# Altium schematic symbol library EEG.SchLib: 7 symbols
Pins are listed as number, name and electrical type; pins without a type are passive.

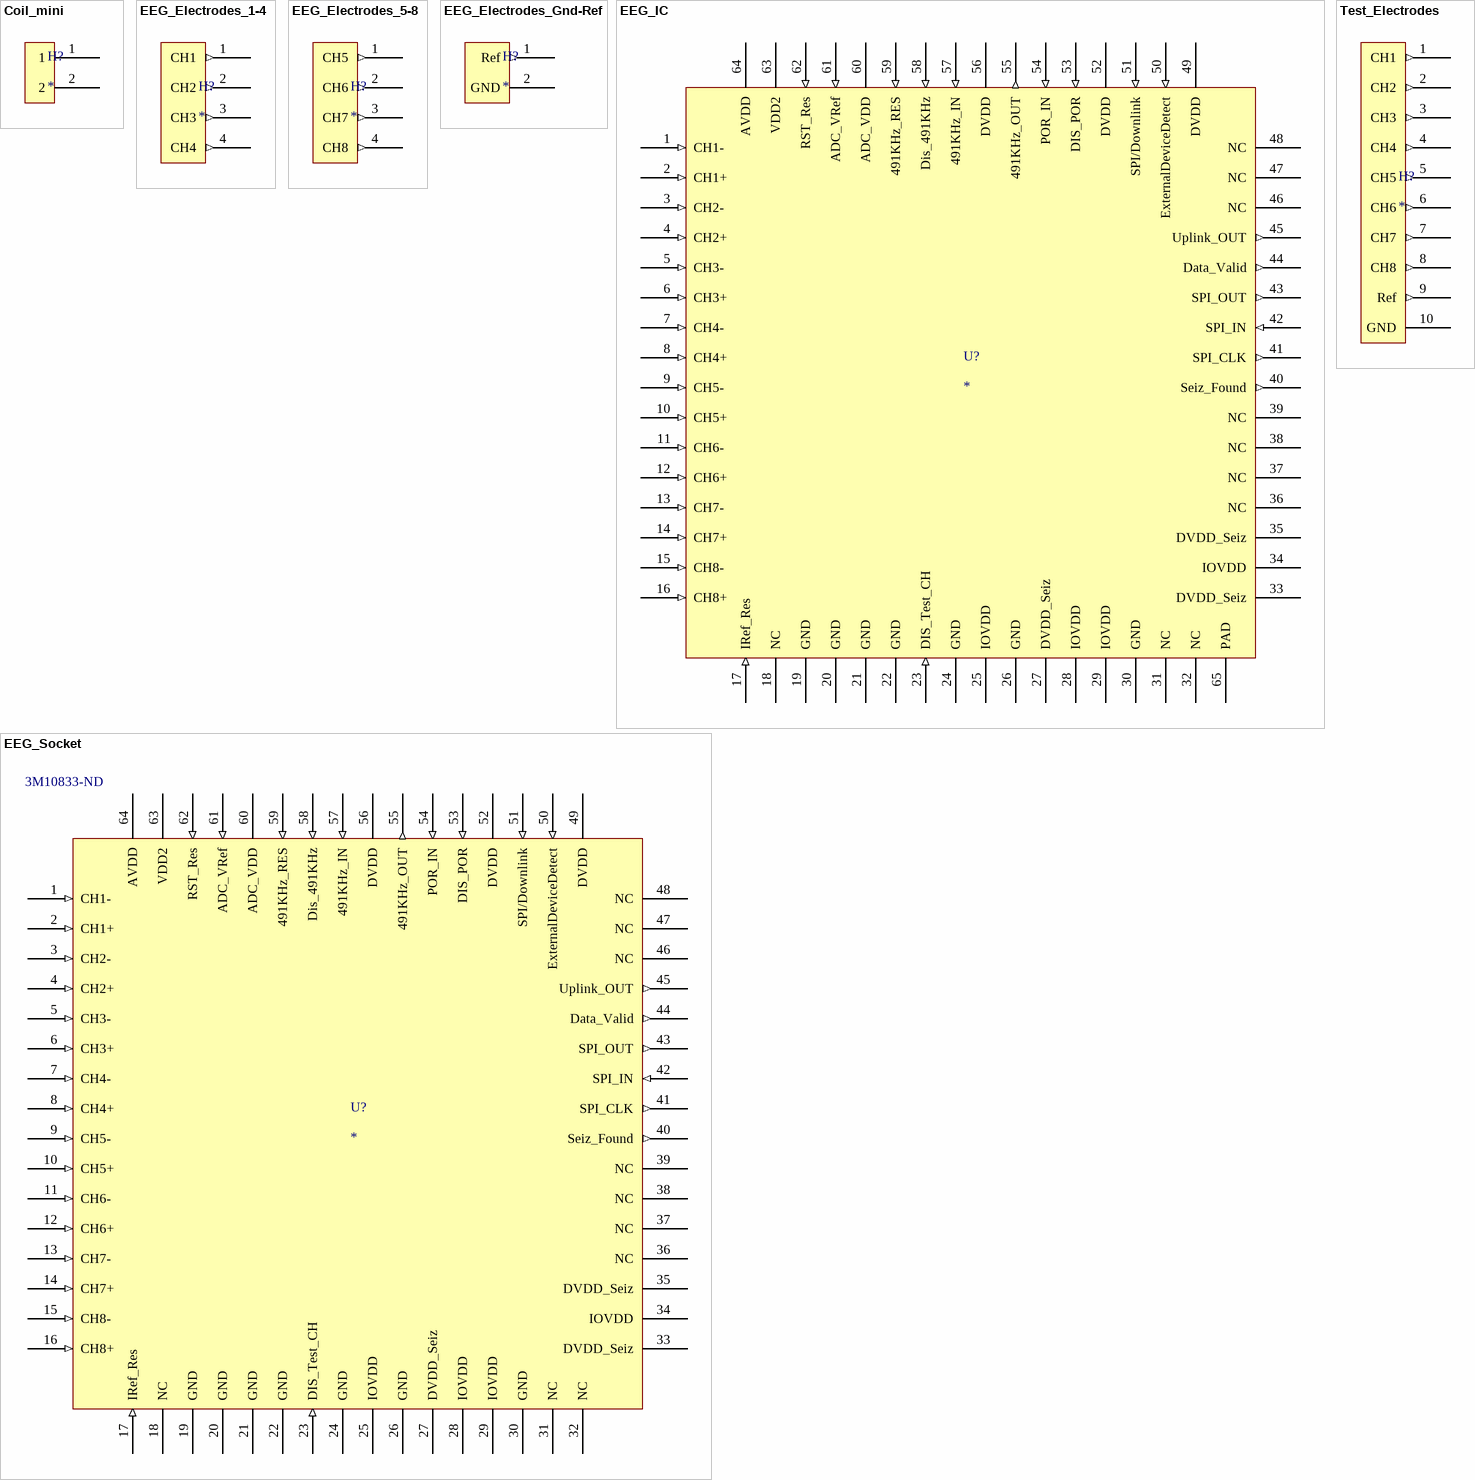
[diagram p0: symbols Coil_mini to Test_Electrodes]

## Coil_mini
designator H?
footprint Coil_mini
pins: 1, 2

## EEG_Electrodes_1-4
designator H?
footprint 4EEG_Header
pins: 1 CH1 (out), 2 CH2 (out), 3 CH3 (out), 4 CH4 (out)

## EEG_Electrodes_5-8
designator H?
footprint 4EEG_Header
pins: 1 CH5 (out), 2 CH6 (out), 3 CH7 (out), 4 CH8 (out)

## EEG_Electrodes_Gnd-Ref
designator H?
footprint EEG_GND-Ref
pins: 1 Ref (out), 2 GND (power)

## EEG_IC
designator U?
EEG 64 pin IC
footprint ADI_CP_64-2_LFCSP64 (QFN, 64-Leads, Body 9.00x9.00mm, Pitch 0.50mm, Thermal Pad 6.00x6.00mm, IPC High Density)
pins: 1 CH1- (in), 2 CH1+ (in), 3 CH2- (in), 4 CH2+ (in), 5 CH3- (in), 6 CH3+ (in), 7 CH4- (in), 8 CH4+ (in), 9 CH5- (in), 10 CH5+ (in), 11 CH6- (in), 12 CH6+ (in), 13 CH7- (in), 14 CH7+ (in), 15 CH8- (in), 16 CH8+ (in), 17 IRef_Res (in), 18 NC, 19 GND (power), 20 GND (power), 21 GND (power), 22 GND (power), 23 DIS_Test_CH (in), 24 GND (power), 25 IOVDD (power), 26 GND (power), 27 DVDD_Seiz (power), 28 IOVDD (power), 29 IOVDD (power), 30 GND (power), 31 NC, 32 NC, 33 DVDD_Seiz (power), 34 IOVDD (power), 35 DVDD_Seiz (power), 36 NC, 37 NC, 38 NC, 39 NC, 40 Seiz_Found (out), 41 SPI_CLK (out), 42 SPI_IN (in), 43 SPI_OUT (out), 44 Data_Valid (out), 45 Uplink_OUT (out), 46 NC, 47 NC, 48 NC, 49 DVDD (power), 50 ExternalDeviceDetect (in), 51 SPI/Downlink (in) "1=SPI, 0=Link", 52 DVDD (power), 53 DIS_POR (in), 54 POR_IN (in), 55 491KHz_OUT (out), 56 DVDD (power), 57 491KHz_IN (in), 58 Dis_491KHz (in), 59 491KHz_RES (in), 60 ADC_VDD (power), 61 ADC_VRef (in), 62 RST_Res (in), 63 VDD2 (power), 64 AVDD (power), 65 PAD (power)

## EEG_Socket
designator U?  Supplier Part Number 1: 3M10833-ND
EEG 64 pin Socket; Supplier 1: Digi-Key
footprint 3M 64p Socket
pins: 1 CH1- (in), 2 CH1+ (in), 3 CH2- (in), 4 CH2+ (in), 5 CH3- (in), 6 CH3+ (in), 7 CH4- (in), 8 CH4+ (in), 9 CH5- (in), 10 CH5+ (in), 11 CH6- (in), 12 CH6+ (in), 13 CH7- (in), 14 CH7+ (in), 15 CH8- (in), 16 CH8+ (in), 17 IRef_Res (in), 18 NC, 19 GND (power), 20 GND (power), 21 GND (power), 22 GND (power), 23 DIS_Test_CH (in), 24 GND (power), 25 IOVDD (power), 26 GND (power), 27 DVDD_Seiz (power), 28 IOVDD (power), 29 IOVDD (power), 30 GND (power), 31 NC, 32 NC, 33 DVDD_Seiz (power), 34 IOVDD (power), 35 DVDD_Seiz (power), 36 NC, 37 NC, 38 NC, 39 NC, 40 Seiz_Found (out), 41 SPI_CLK (out), 42 SPI_IN (in), 43 SPI_OUT (out), 44 Data_Valid (out), 45 Uplink_OUT (out), 46 NC, 47 NC, 48 NC, 49 DVDD (power), 50 ExternalDeviceDetect (in), 51 SPI/Downlink (in) "1=SPI, 0=Link", 52 DVDD (power), 53 DIS_POR (in), 54 POR_IN (in), 55 491KHz_OUT (out), 56 DVDD (power), 57 491KHz_IN (in), 58 Dis_491KHz (in), 59 491KHz_RES (in), 60 ADC_VDD (power), 61 ADC_VRef (in), 62 RST_Res (in), 63 VDD2 (power), 64 AVDD (power)

## Test_Electrodes
designator H?
footprint 1x4_.100"_Header
pins: 1 CH1 (out), 2 CH2 (out), 3 CH3 (out), 4 CH4 (out), 5 CH5 (out), 6 CH6 (out), 7 CH7 (out), 8 CH8 (out), 9 Ref (out), 10 GND (power)